# EAGLE library part CY7C187 (library memory-sram)
MEMORY 64K x1 STATIC RAM
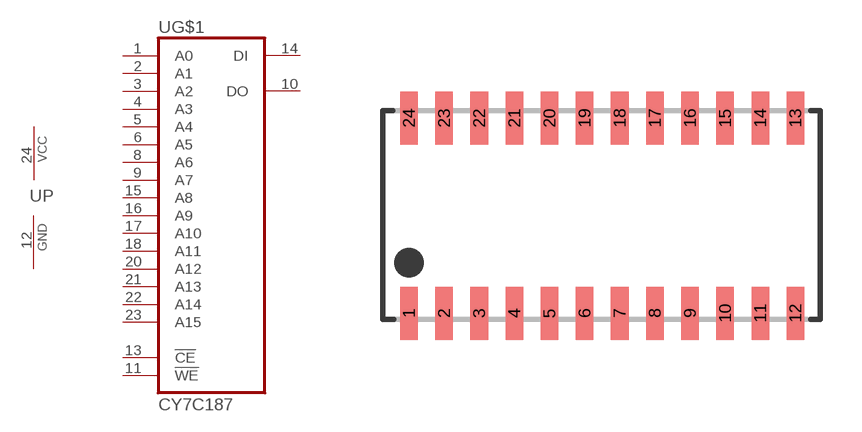
[diagram p23: symbol with the pads of SOJ24/3; footprint SOJ24/3]

Designator prefix U; gates G$1=CY7C187 P=PWRN

## CY7C187  [SOJ24/3]
1  G$1:A0  in
2  G$1:A1  in
3  G$1:A2  in
4  G$1:A3  in
5  G$1:A4  in
6  G$1:A5  in
8  G$1:A6  in
9  G$1:A7  in
10  G$1:DO
11  G$1:!WE!  in
12  P:GND  pwr
13  G$1:!CE!  in
14  G$1:DI
15  G$1:A8  in
16  G$1:A9  in
17  G$1:A10  in
18  G$1:A11  in
20  G$1:A12  in
21  G$1:A13  in
22  G$1:A14  in
23  G$1:A15  in
24  P:VCC  pwr

## Footprint SOJ24/3 (pad centres in mm)
Small Outline J-Bend
smd 0.635 x 1.905: 1 -6.35,-3.531; 2 -5.08,-3.531; 3 -3.81,-3.531; 4 -2.54,-3.531; 5 -1.27,-3.531; 6 0,-3.531; 7 1.27,-3.531; 8 2.54,-3.531; 9 3.81,-3.531; 10 5.08,-3.531; 11 6.35,-3.531; 12 7.62,-3.531; 13 7.62,3.531; 14 6.35,3.531; 15 5.08,3.531; 16 3.81,3.531; 17 2.54,3.531; 18 1.27,3.531; 19 0,3.531; 20 -1.27,3.531; 21 -2.54,3.531; 22 -3.81,3.531; 23 -5.08,3.531; 24 -6.35,3.531